# Altium footprint library hhm1595a1.PcbLib: 1 footprints
Each footprint in its own frame and in the unit in brackets; x right, y up, seen from the top. Pads: shape width x height; smd on the part's side, far side on the other; paste and mask are expansions set on the pad; w line width, h text height; cw(c..) or ccw(c..) is an arc to the next point about the centre after c.
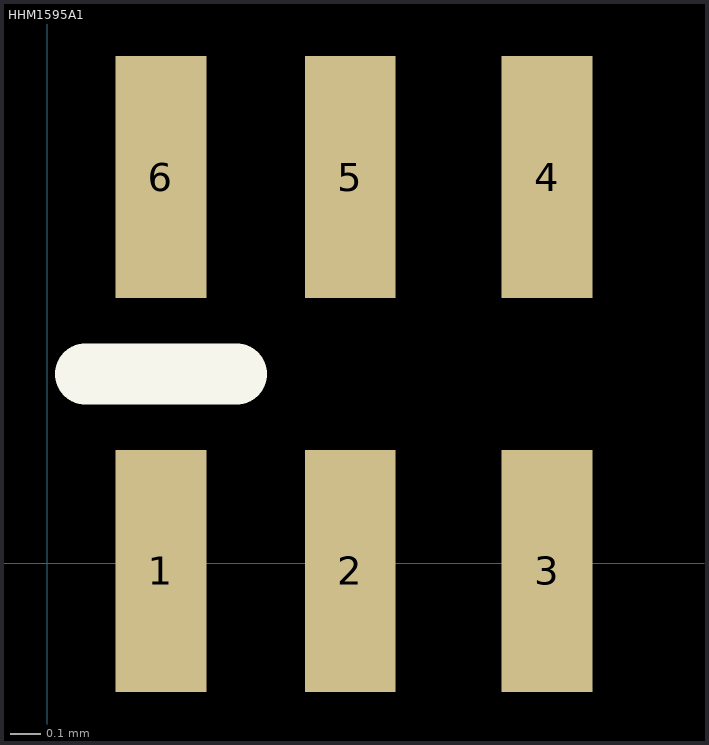
[diagram p0: the footprint, top view; thin cyan lines are the x and y axes]

## HHM1595A1 [mm]
pads (6):
  rect 0.3x0.8 smd: 1(0.375,-0.025) 2(1,-0.025) 3(1.65,-0.025) 4(1.65,1.275) 5(1,1.275) 6(0.375,1.275)
Top Overlay:
  lines w0.2: 0.125,0.625 0.625,0.625
3D body "User Library-Balun2450FB15L0001.STEP": height 0.8, standoff 0, extent 0,0 2,1.25